# EAGLE library part DS2Y-S-DC5V (library DS2Y-S-DC5V)
Low Signal Relays - PCB 2A 5VDC DPDT SEALED PCB Source: Datasheet <https://componentsearchengine.com/Datasheets/2/DS2Y-S-DC5V.pdf>
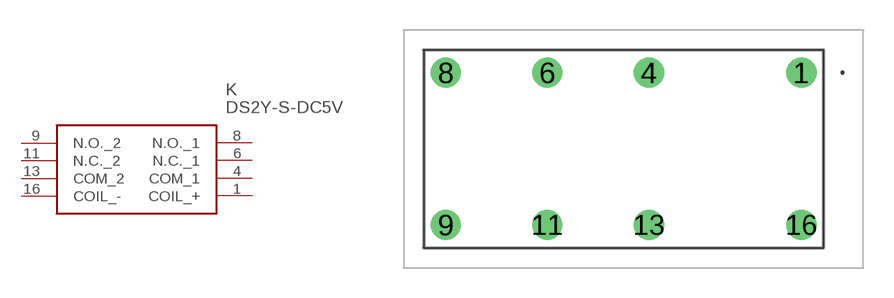
[diagram p0: symbol with the pads of DS2YSDC5V; footprint DS2YSDC5V]

Designator prefix K

## DS2Y-S-DC5V (Arrow_Part_Number: DS2Y-S-DC5V; Arrow_Price-Stock: https://www.arrow.com/en/products/ds2y-s-dc5v/panasonic?region=nac; Description: Low Signal Relays - PCB 2A 5VDC DPDT SEALED PCB; Height: 10.2mm; Manufacturer_Name: Panasonic; Manufacturer_Part_Number: DS2Y-S-DC5V; Mouser_Part_Number: 769-DS2Y-S-DC5V; Mouser_Price-Stock: https://www.mouser.co.uk/ProductDetail/Panasonic-Industrial-Devices/DS2Y-S-DC5V?qs=HLLy2pIPwusl7Ghj1oxxmA%3D%3D)  [DS2YSDC5V]
1  COIL_+
4  COM_1
6  N.C._1
8  N.O._1
9  N.O._2
11  N.C._2
13  COM_2
16  COIL_-

## Footprint DS2YSDC5V (pad centres in mm)
DS2Y-S-DC5V-1
drill 1 pad 1.5: 1 0,0; 4 -7.62,0; 6 -12.7,0; 8 -17.78,0; 9 -17.78,-7.62; 11 -12.7,-7.62; 13 -7.62,-7.62; 16 0,-7.62